# Altium footprint library FPC1.25.PcbLib: 37 footprints (part 3 of 3)
Each footprint in its own frame and in the unit in brackets; x right, y up, seen from the top. Pads: shape width x height; smd on the part's side, far side on the other; paste and mask are expansions set on the pad; w line width, h text height; cw(c..) or ccw(c..) is an arc to the next point about the centre after c.
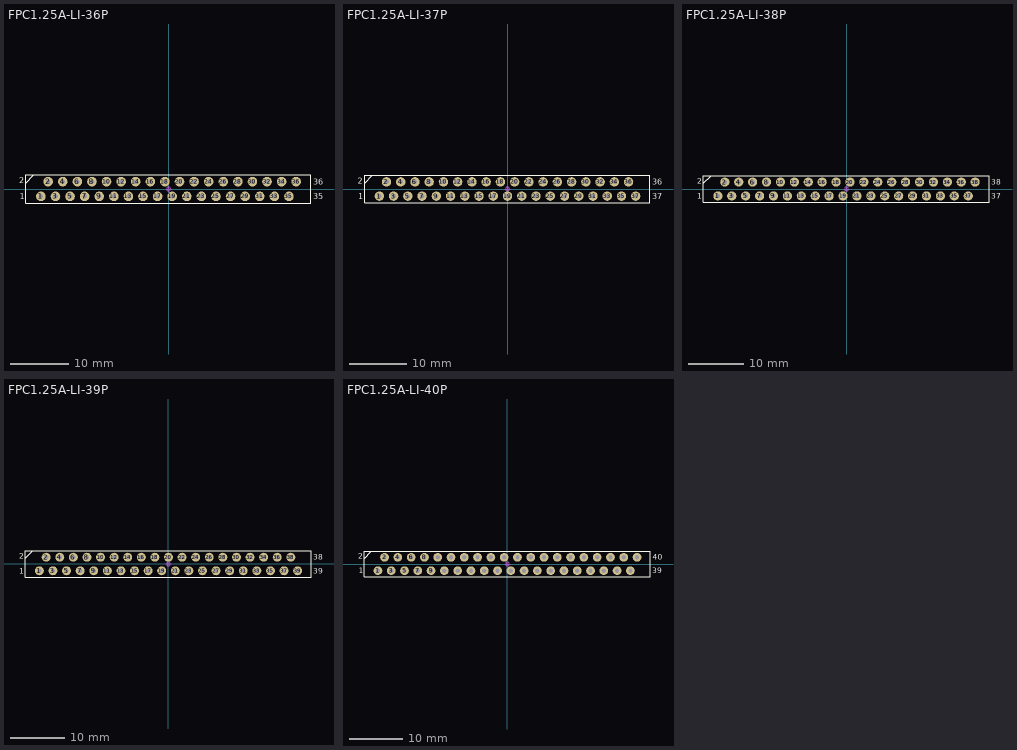
[diagram p2: the footprints below, top view; thin cyan lines are the x and y axes]

## FPC1.25A-LI-36P [mm] "36脚，长：48.5mm，宽：4.5mm，高：7.3mm"
pads (36):
  round 1.65 hole 0.8: 1(-21.875,-1.25) 2(-20.625,1.25) 3(-19.375,-1.25) 4(-18.125,1.25) 5(-16.875,-1.25) 6(-15.625,1.25) 7(-14.375,-1.25) 8(-13.125,1.25) 9(-11.875,-1.25) 10(-10.625,1.25) 11(-9.375,-1.25) 12(-8.125,1.25) 13(-6.875,-1.25) 14(-5.625,1.25) 15(-4.375,-1.25) 16(-3.125,1.25) 17(-1.875,-1.25) 18(-0.625,1.25) 19(0.625,-1.25) 20(1.875,1.25) 21(3.125,-1.25) 22(4.375,1.25) 23(5.625,-1.25) 24(6.875,1.25) 25(8.125,-1.25) 26(9.375,1.25) 27(10.625,-1.25) 28(11.875,1.25) 29(13.125,-1.25) 30(14.375,1.25) 31(15.625,-1.25) 32(16.875,1.25) 33(18.125,-1.25) 34(19.375,1.25) 35(20.625,-1.25) 36(21.875,1.25)
Top Overlay:
  lines w0.2: -24.481,1.016 -23.084,2.413 ; -24.481,-2.413 24.375,-2.413 24.375,2.413 -24.481,2.413 -24.481,-2.413
  text "1" at -25.527,-1.778 h1.02
  text "2" at -25.624,0.965 h1.02
  text "36" at 24.765,0.762 h1.02
  text "35" at 24.756,-1.778 h1.02
Mechanical 15:
  circle w0.05: c0,0 r0.35
  lines w0.05: -0.5,0 0.5,0 ; 0,-0.5 0,0.5
3D body: height 7.3, standoff -2.55, extent -24.3,-2.25 24.3,2.25

## FPC1.25A-LI-37P [mm] "37脚，长：48.75mm，宽：4.5mm，高：7.3mm"
pads (37):
  round 1.65 hole 0.8: 1(-22.5,-1.25) 2(-21.25,1.25) 3(-20,-1.25) 4(-18.75,1.25) 5(-17.5,-1.25) 6(-16.25,1.25) 7(-15,-1.25) 8(-13.75,1.25) 9(-12.5,-1.25) 10(-11.25,1.25) 11(-10,-1.25) 12(-8.75,1.25) 13(-7.5,-1.25) 14(-6.25,1.25) 15(-5,-1.25) 16(-3.75,1.25) 17(-2.5,-1.25) 18(-1.25,1.25) 19(0,-1.25) 20(1.25,1.25) 21(2.5,-1.25) 22(3.75,1.25) 23(5,-1.25) 24(6.25,1.25) 25(7.5,-1.25) 26(8.75,1.25) 27(10,-1.25) 28(11.25,1.25) 29(12.5,-1.25) 30(13.75,1.25) 31(15,-1.25) 32(16.25,1.25) 33(17.5,-1.25) 34(18.75,1.25) 35(20,-1.25) 36(21.25,1.25) 37(22.5,-1.25)
Top Overlay:
  lines w0.2: -25.106,1.016 -23.709,2.413 ; -25.106,-2.413 25,-2.413 25,2.413 -25.106,2.413 -25.106,-2.413
  text "1" at -26.162,-1.778 h1.02
  text "2" at -26.249,0.965 h1.02
  text "36" at 25.4,0.762 h1.02
  text "37" at 25.381,-1.778 h1.02
Mechanical 15:
  circle w0.05: c0,0 r0.35
  lines w0.05: -0.5,0 0.5,0 ; 0,-0.5 0,0.5
3D body: height 7.3, standoff -2.55, extent -24.925,-2.25 24.925,2.25

## FPC1.25A-LI-38P [mm] "38脚，长：51mm，宽：4.5mm，高：7.3mm"
pads (38):
  round 1.65 hole 0.8: 1(-23.125,-1.25) 2(-21.875,1.25) 3(-20.625,-1.25) 4(-19.375,1.25) 5(-18.125,-1.25) 6(-16.875,1.25) 7(-15.625,-1.25) 8(-14.375,1.25) 9(-13.125,-1.25) 10(-11.875,1.25) 11(-10.625,-1.25) 12(-9.375,1.25) 13(-8.125,-1.25) 14(-6.875,1.25) 15(-5.625,-1.25) 16(-4.375,1.25) 17(-3.125,-1.25) 18(-1.875,1.25) 19(-0.625,-1.25) 20(0.625,1.25) 21(1.875,-1.25) 22(3.125,1.25) 23(4.375,-1.25) 24(5.625,1.25) 25(6.875,-1.25) 26(8.125,1.25) 27(9.375,-1.25) 28(10.625,1.25) 29(11.875,-1.25) 30(13.125,1.25) 31(14.375,-1.25) 32(15.625,1.25) 33(16.875,-1.25) 34(18.125,1.25) 35(19.375,-1.25) 36(20.625,1.25) 37(21.875,-1.25) 38(23.125,1.25)
Top Overlay:
  lines w0.2: -25.731,1.016 -24.334,2.413 ; -25.731,-2.413 25.625,-2.413 25.625,2.413 -25.731,2.413 -25.731,-2.413
  text "1" at -26.797,-1.778 h1.02
  text "2" at -26.874,0.965 h1.02
  text "38" at 26.035,0.762 h1.02
  text "37" at 26.006,-1.778 h1.02
Mechanical 15:
  circle w0.05: c0,0 r0.35
  lines w0.05: -0.5,0 0.5,0 ; 0,-0.5 0,0.5
3D body: height 7.3, standoff -2.55, extent -25.55,-2.25 25.55,2.25

## FPC1.25A-LI-39P [mm] "39脚，长：52.5mm，宽：4.5mm，高：7.3mm"
pads (39):
  round 1.65 hole 0.8: 1(-23.75,-1.25) 2(-22.5,1.25) 3(-21.25,-1.25) 4(-20,1.25) 5(-18.75,-1.25) 6(-17.5,1.25) 7(-16.25,-1.25) 8(-15,1.25) 9(-13.75,-1.25) 10(-12.5,1.25) 11(-11.25,-1.25) 12(-10,1.25) 13(-8.75,-1.25) 14(-7.5,1.25) 15(-6.25,-1.25) 16(-5,1.25) 17(-3.75,-1.25) 18(-2.5,1.25) 19(-1.25,-1.25) 20(0,1.25) 21(1.25,-1.25) 22(2.5,1.25) 23(3.75,-1.25) 24(5,1.25) 25(6.25,-1.25) 26(7.5,1.25) 27(8.75,-1.25) 28(10,1.25) 29(11.25,-1.25) 30(12.5,1.25) 31(13.75,-1.25) 32(15,1.25) 33(16.25,-1.25) 34(17.5,1.25) 35(18.75,-1.25) 36(20,1.25) 37(21.25,-1.25) 38(22.5,1.25) 39(23.75,-1.25)
Top Overlay:
  lines w0.2: -26.356,1.016 -24.959,2.413 ; -26.356,-2.413 26.25,-2.413 26.25,2.413 -26.356,2.413 -26.356,-2.413
  text "1" at -27.432,-1.778 h1.02
  text "2" at -27.499,0.965 h1.02
  text "38" at 26.67,0.762 h1.02
  text "39" at 26.631,-1.778 h1.02
Mechanical 15:
  circle w0.05: c0,0 r0.35
  lines w0.05: -0.5,0 0.5,0 ; 0,-0.5 0,0.5
3D body: height 7.3, standoff -2.55, extent -26.175,-2.25 26.175,2.25

## FPC1.25A-LI-40P [mm] "40脚，长：53.5mm，宽：4.5mm，高：7.3mm"
pads (40):
  round 1.65 hole 0.8: 1(-24.375,-1.25) 2(-23.125,1.25) 3(-21.875,-1.25) 4(-20.625,1.25) 5(-19.375,-1.25) 6(-18.125,1.25) 7(-16.875,-1.25) 8(-15.625,1.25) 9(-14.375,-1.25) 10(-13.125,1.25) 11(-11.875,-1.25) 12(-10.625,1.25) 13(-9.375,-1.25) 14(-8.125,1.25) 15(-6.875,-1.25) 16(-5.625,1.25) 17(-4.375,-1.25) 18(-3.125,1.25) 19(-1.875,-1.25) 20(-0.625,1.25) 21(0.625,-1.25) 22(1.875,1.25) 23(3.125,-1.25) 24(4.375,1.25) 25(5.625,-1.25) 26(6.875,1.25) 27(8.125,-1.25) 28(9.375,1.25) 29(10.625,-1.25) 30(11.875,1.25) 31(13.125,-1.25) 32(14.375,1.25) 33(15.625,-1.25) 34(16.875,1.25) 35(18.125,-1.25) 36(19.375,1.25) 37(20.625,-1.25) 38(21.875,1.25) 39(23.125,-1.25) 40(24.375,1.25)
Top Overlay:
  lines w0.2: -26.981,1.016 -25.584,2.413 ; -26.981,-2.413 26.875,-2.413 26.875,2.413 -26.981,2.413 -26.981,-2.413
  text "1" at -27.94,-1.778 h1.02
  text "2" at -28.124,0.965 h1.02
  text "40" at 27.305,0.762 h1.02
  text "39" at 27.256,-1.778 h1.02
Mechanical 15:
  circle w0.05: c0,0 r0.35
  lines w0.05: -0.5,0 0.5,0 ; 0,-0.5 0,0.5
3D body: height 7.3, standoff -2.55, extent -26.8,-2.25 26.8,2.25